# Altium footprint library VFQFPN0.40P6.0X6.0X1.0-36EP.PcbLib: 3 footprints
Each footprint in its own frame and in the unit in brackets; x right, y up, seen from the top. Pads: shape width x height; smd on the part's side, far side on the other; paste and mask are expansions set on the pad; w line width, h text height; cw(c..) or ccw(c..) is an arc to the next point about the centre after c.
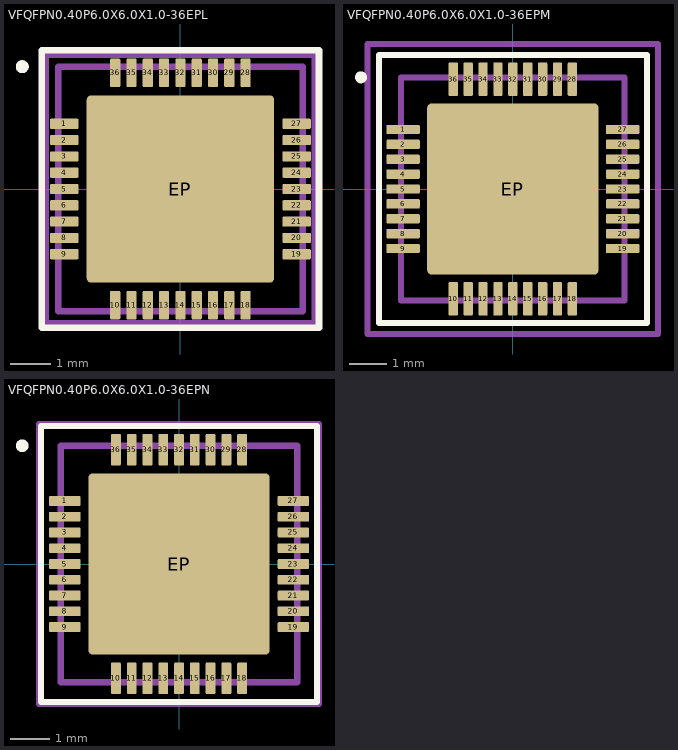
[diagram p0: the footprints below, top view; thin cyan lines are the x and y axes]

## VFQFPN0.40P6.0X6.0X1.0-36EPL [mm] "VFQFPN 36 6x6x1.0 mm"
height 1
pads (37):
  rrect25% 0.7x0.25 smd: 1(-2.85,1.6) 2(-2.85,1.2) 3(-2.85,0.8) 4(-2.85,0.4) 5(-2.85,0) 6(-2.85,-0.4) 7(-2.85,-0.8) 8(-2.85,-1.2) 9(-2.85,-1.6) 19(2.85,-1.6) 20(2.85,-1.2) 21(2.85,-0.8) 22(2.85,-0.4) 23(2.85,0) 24(2.85,0.4) 25(2.85,0.8) 26(2.85,1.2) 27(2.85,1.6)
  rrect25% 0.25x0.7 smd: 10(-1.6,-2.85) 11(-1.2,-2.85) 12(-0.8,-2.85) 13(-0.4,-2.85) 14(0,-2.85) 15(0.4,-2.85) 16(0.8,-2.85) 17(1.2,-2.85) 18(1.6,-2.85) 28(1.6,2.85) 29(1.2,2.85) 30(0.8,2.85) 31(0.4,2.85) 32(0,2.85) 33(-0.4,2.85) 34(-0.8,2.85) 35(-1.2,2.85) 36(-1.6,2.85)
  rrect5% 4.6x4.6 smd: EP(0,0)
Top Overlay:
  circle w0.16: c-3.88,3 r0.08
  lines w0.16: -3.4,-3.4 3.4,-3.4 3.4,3.4 -3.4,3.4 -3.4,-3.4
Top Component Center:
  lines w0.1: -0.75,0 0.75,0 ; 0,-0.75 0,0.75
Top Courtyard:
  lines w0.16: -3.3,-3.3 3.3,-3.3 3.3,3.3 -3.3,3.3 -3.3,-3.3
Top Assembly:
  lines w0.16: -3,-3 3,-3 3,3 -3,3 -3,-3
3D body "VFQFPN0.40P6.0X6.0X1.0-36EPL.STEP": height 1, standoff 0

## VFQFPN0.40P6.0X6.0X1.0-36EPM [mm] "VFQFPN 36 6x6x1.0 mm"
height 1
pads (37):
  rrect25% 0.9x0.25 smd: 1(-2.95,1.6) 2(-2.95,1.2) 3(-2.95,0.8) 4(-2.95,0.4) 5(-2.95,0) 6(-2.95,-0.4) 7(-2.95,-0.8) 8(-2.95,-1.2) 9(-2.95,-1.6) 19(2.95,-1.6) 20(2.95,-1.2) 21(2.95,-0.8) 22(2.95,-0.4) 23(2.95,0) 24(2.95,0.4) 25(2.95,0.8) 26(2.95,1.2) 27(2.95,1.6)
  rrect25% 0.25x0.9 smd: 10(-1.6,-2.95) 11(-1.2,-2.95) 12(-0.8,-2.95) 13(-0.4,-2.95) 14(0,-2.95) 15(0.4,-2.95) 16(0.8,-2.95) 17(1.2,-2.95) 18(1.6,-2.95) 28(1.6,2.95) 29(1.2,2.95) 30(0.8,2.95) 31(0.4,2.95) 32(0,2.95) 33(-0.4,2.95) 34(-0.8,2.95) 35(-1.2,2.95) 36(-1.6,2.95)
  rrect5% 4.6x4.6 smd: EP(0,0)
Top Overlay:
  circle w0.16: c-4.08,3 r0.08
  lines w0.16: -3.6,-3.6 3.6,-3.6 3.6,3.6 -3.6,3.6 -3.6,-3.6
Top Component Center:
  lines w0.1: -0.75,0 0.75,0 ; 0,-0.75 0,0.75
Top Courtyard:
  lines w0.16: -3.9,-3.9 3.9,-3.9 3.9,3.9 -3.9,3.9 -3.9,-3.9
Top Assembly:
  lines w0.16: -3,-3 3,-3 3,3 -3,3 -3,-3
3D body "VFQFPN0.40P6.0X6.0X1.0-36EPM.STEP": height 1, standoff 0

## VFQFPN0.40P6.0X6.0X1.0-36EPN [mm] "VFQFPN 36 6x6x1.0 mm"
height 1
pads (37):
  rrect25% 0.8x0.25 smd: 1(-2.9,1.6) 2(-2.9,1.2) 3(-2.9,0.8) 4(-2.9,0.4) 5(-2.9,0) 6(-2.9,-0.4) 7(-2.9,-0.8) 8(-2.9,-1.2) 9(-2.9,-1.6) 19(2.9,-1.6) 20(2.9,-1.2) 21(2.9,-0.8) 22(2.9,-0.4) 23(2.9,0) 24(2.9,0.4) 25(2.9,0.8) 26(2.9,1.2) 27(2.9,1.6)
  rrect25% 0.25x0.8 smd: 10(-1.6,-2.9) 11(-1.2,-2.9) 12(-0.8,-2.9) 13(-0.4,-2.9) 14(0,-2.9) 15(0.4,-2.9) 16(0.8,-2.9) 17(1.2,-2.9) 18(1.6,-2.9) 28(1.6,2.9) 29(1.2,2.9) 30(0.8,2.9) 31(0.4,2.9) 32(0,2.9) 33(-0.4,2.9) 34(-0.8,2.9) 35(-1.2,2.9) 36(-1.6,2.9)
  rrect5% 4.6x4.6 smd: EP(0,0)
Top Overlay:
  circle w0.16: c-3.98,3 r0.08
  lines w0.16: -3.5,-3.5 3.5,-3.5 3.5,3.5 -3.5,3.5 -3.5,-3.5
Top Component Center:
  lines w0.1: -0.75,0 0.75,0 ; 0,-0.75 0,0.75
Top Courtyard:
  lines w0.16: -3.55,-3.55 3.55,-3.55 3.55,3.55 -3.55,3.55 -3.55,-3.55
Top Assembly:
  lines w0.16: -3,-3 3,-3 3,3 -3,3 -3,-3
3D body "VFQFPN0.40P6.0X6.0X1.0-36EPN.STEP": height 1, standoff 0